# Altium schematic symbol library PPD42NS_sch.SchLib: 1 symbol
Pins are listed as number, name and electrical type; pins without a type are passive.

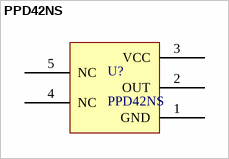
[diagram p0: symbol PPD42NS]

## PPD42NS
designator U?
Dust Sensor
footprint PPD42NS
pins: 1 GND, 2 OUT, 3 VCC, 4 NC, 5 NC